# EAGLE library part NRF24L01-MODULE (library potinho)
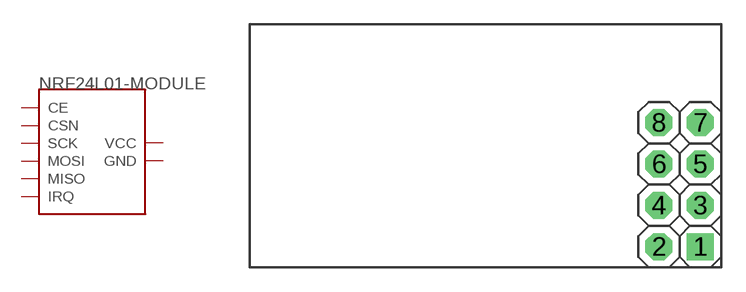
[diagram p5: symbol with the pads of NRF24L01-MODULE; footprint NRF24L01-MODULE]

Designator prefix IC

## NRF24L01-MODULE  [NRF24L01-MODULE]
1  GND  pwr
2  VCC  pwr
3  CE
4  CSN
5  SCK
6  MOSI
7  MISO
8  IRQ

## Footprint NRF24L01-MODULE (pad centres in mm)
drill 1.1 square: 1 2.54,-3.81
drill 1.1 octagon: 2 0,-3.81; 3 2.54,-1.27; 4 0,-1.27; 5 2.54,1.27; 6 0,1.27; 7 2.54,3.81; 8 0,3.81